# Altium footprint library SRP3020TA-1R0M.PcbLib: 3 footprints
Each footprint in its own frame and in the unit in brackets; x right, y up, seen from the top. Pads: shape width x height; smd on the part's side, far side on the other; paste and mask are expansions set on the pad; w line width, h text height; cw(c..) or ccw(c..) is an arc to the next point about the centre after c.
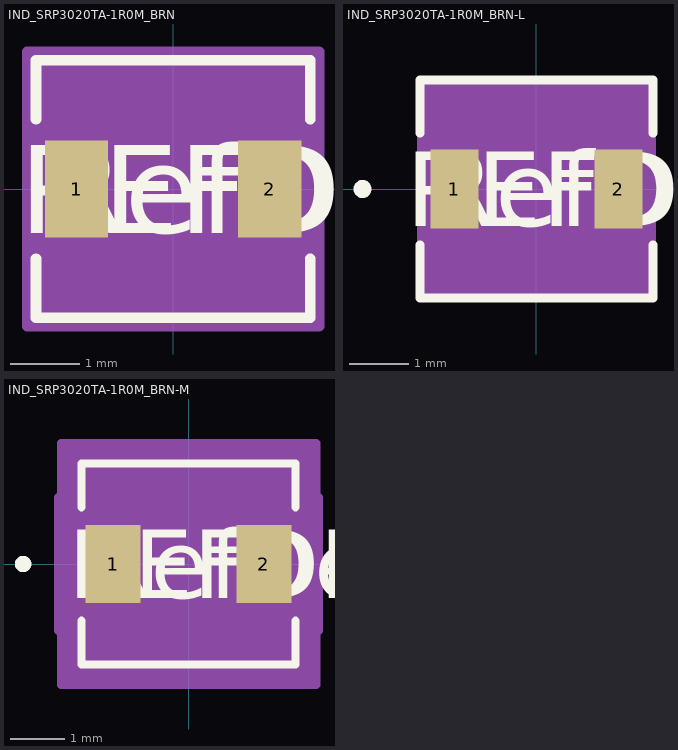
[diagram p0: the footprints below, top view; thin cyan lines are the x and y axes]

## IND_SRP3020TA-1R0M_BRN [mil]
pads (2):
  rect 36x55 smd paste+0 mask+0: 1(-54.83,0) 2(54.83,0)
Top Overlay:
  lines w6: -77.83,-39.61 -77.83,-73 77.83,-73 77.83,-39.61 ; -77.83,39.61 -77.83,73 77.83,73 77.83,39.61
  text "REFDES" at -87.5,-25 h50
  text "RefDes" at -75,-25 h50
Mechanical 13:
  circle w0: c0,0 r0
  lines w1: -72.83,-68 72.83,-68 72.83,68 -72.83,68 -72.83,-68
  text "RefDes2" at -87.5,-25 h50
Mechanical 15:
  region: -82.83,-37.5 -82.83,37.5 -82.83,78 82.83,78 82.83,37.5 82.83,-37.5 82.83,-78 -82.83,-78
  lines w6: -82.83,-37.5 -82.83,37.5 ; -82.83,-37.5 -82.83,-37.5 ; -82.83,-37.5 -82.83,-78 82.83,-78 82.83,-37.5 ; -82.83,37.5 -82.83,37.5 ; -82.83,37.5 -82.83,78 82.83,78 82.83,37.5 ; 82.83,-37.5 82.83,37.5 ; 82.83,-37.5 82.83,-37.5 ; 82.83,37.5 82.83,37.5
3D body "IND_SRP3020TA-1R0M_BRN.step": height 79.09, standoff 0, extent -72.83,-67.99 72.83,67.99

## IND_SRP3020TA-1R0M_BRN-L [mil]
pads (2):
  rect 32x53 smd paste+0 mask+0: 1(-54.83,0) 2(54.83,0)
Top Overlay:
  circle w6: c-116.33,0 r3
  lines w6: -77.83,-37.57 -77.83,-73 77.83,-73 77.83,-37.57 ; -77.83,37.57 -77.83,73 77.83,73 77.83,37.57
  text "REFDES" at -87.5,-25 h50
  text "RefDes" at -75,-25 h50
Mechanical 13:
  circle w0: c0,0 r3
  lines w1: -72.83,-68 72.83,-68 72.83,68 -72.83,68 -72.83,-68
  text "RefDes2" at -87.5,-25 h50
Mechanical 15:
  region: -76.83,-30.5 -76.83,30.5 -76.83,72 76.83,72 76.83,30.5 76.83,-30.5 76.83,-72 -76.83,-72
  lines w6: -76.83,-30.5 -76.83,30.5 ; -76.83,-30.5 -76.83,-30.5 ; -76.83,-30.5 -76.83,-72 76.83,-72 76.83,-30.5 ; -76.83,30.5 -76.83,30.5 ; -76.83,30.5 -76.83,72 76.83,72 76.83,30.5 ; 76.83,-30.5 76.83,30.5 ; 76.83,-30.5 76.83,-30.5 ; 76.83,30.5 76.83,30.5
3D body "IND_SRP3020TA-1R0M_BRN.step": height 79.09, standoff 0, extent -72.83,-67.99 72.83,67.99

## IND_SRP3020TA-1R0M_BRN-M [mil]
pads (2):
  rect 40x57 smd paste+0 mask+0: 1(-54.83,0) 2(54.83,0)
Top Overlay:
  circle w6: c-120.33,0 r3
  lines w6: -77.83,-41.25 -77.83,-73 77.83,-73 77.83,-41.25 ; -77.83,41.25 -77.83,73 77.83,73 77.83,41.25
  text "REFDES" at -87.5,-25 h50
  text "RefDes" at -75,-25 h50
Mechanical 13:
  circle w0: c0,0 r3
  lines w1: -72.83,-68 72.83,-68 72.83,68 -72.83,68 -72.83,-68
  text "RefDes2" at -87.5,-25 h50
Mechanical 15:
  region: -92.83,-48.5 -94.83,-48.5 -94.83,48.5 -92.83,48.5 -92.83,88 92.83,88 92.83,48.5 94.83,48.5 94.83,-48.5 92.83,-48.5 92.83,-88 -92.83,-88
  lines w6: -94.83,-48.5 -94.83,48.5 -92.83,48.5 -92.83,88 92.83,88 92.83,48.5 94.83,48.5 94.83,-48.5 92.83,-48.5 92.83,-88 -92.83,-88 -92.83,-48.5 -94.83,-48.5
3D body "IND_SRP3020TA-1R0M_BRN.step": height 79.09, standoff 0, extent -72.83,-67.99 72.83,67.99